# EAGLE library part SQT-108-A-F-D (library con_samtec2)
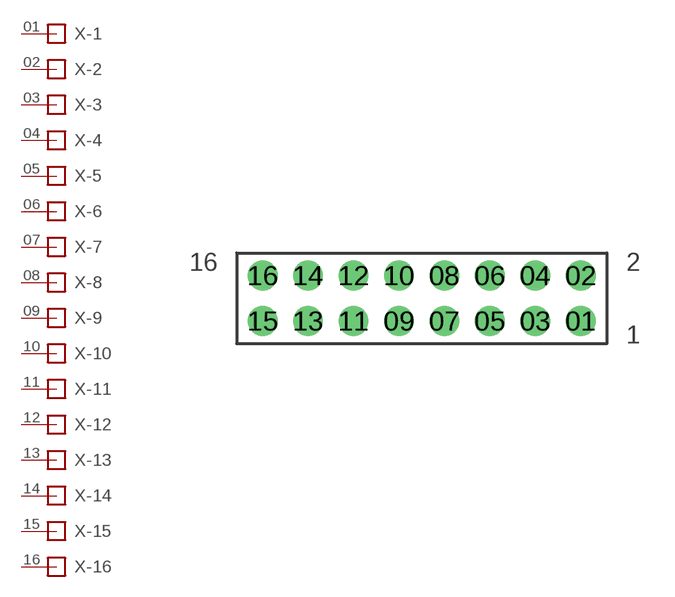
[diagram p4: symbol with the pads of SQT_08X2; footprint SQT_08X2]

Designator prefix X; gates -1=PIN-2 -2=PIN-2 -3=PIN-2 -4=PIN-2 -5=PIN-2 -6=PIN-2 -7=PIN-2 -8=PIN-2 -9=PIN-2 -10=PIN-2 -11=PIN-2 -12=PIN-2 -13=PIN-2 -14=PIN-2 -15=PIN-2 -16=PIN-2

## SQT-108-A-F-D  [SQT_08X2]
01  -1:PIN
02  -2:PIN
03  -3:PIN
04  -4:PIN
05  -5:PIN
06  -6:PIN
07  -7:PIN
08  -8:PIN
09  -9:PIN
10  -10:PIN
11  -11:PIN
12  -12:PIN
13  -13:PIN
14  -14:PIN
15  -15:PIN
16  -16:PIN

## Footprint SQT_08X2 (pad centres in mm)
drill 0.8: 01 7,-1; 02 7,1; 03 5,-1; 04 5,1; 05 3,-1; 06 3,1; 07 1,-1; 08 1,1; 09 -1,-1; 10 -1,1; 11 -3,-1; 12 -3,1; 13 -5,-1; 14 -5,1; 15 -7,-1; 16 -7,1